# Altium schematic symbol library UFL.SchLib: 1 symbol
Pins are listed as number, name and electrical type; pins without a type are passive.

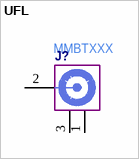
[diagram p0: symbol UFL]

## UFL
designator J?  Manufacturer Part Number: MMBTXXX  (hidden comment: *)
pins: 1 GND, 2 ANT, 3 GND